# EAGLE library part DRC13-70P-B027 (library con-deutsch)
DRC13-70P-B027 Source: DRC13_70P_B027_051010_Einbau_00.pdf
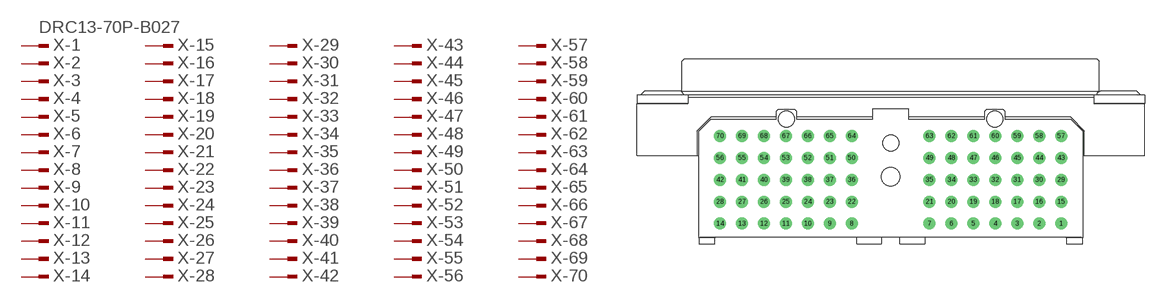
[diagram p23: symbol with the pads of CDG-DRC13-70P-B027; footprint CDG-DRC13-70P-B027]

Designator prefix X; gates -1=PINM_VAL -2=PINM -3=PINM -4=PINM -5=PINM -6=PINM -7=PINM -8=PINM -9=PINM -10=PINM -11=PINM -12=PINM -13=PINM -14=PINM -15=PINM -16=PINM -17=PINM -18=PINM -19=PINM -20=PINM -21=PINM -22=PINM -23=PINM -24=PINM -25=PINM -26=PINM -27=PINM -28=PINM -29=PINM -30=PINM -31=PINM -32=PINM -33=PINM -34=PINM -35=PINM -36=PINM -37=PINM -38=PINM -39=PINM -40=PINM -41=PINM -42=PINM -43=PINM -44=PINM -45=PINM -46=PINM -47=PINM -48=PINM -49=PINM -50=PINM -51=PINM -52=PINM -53=PINM -54=PINM -55=PINM -56=PINM -57=PINM -58=PINM -59=PINM -60=PINM -61=PINM -62=PINM -63=PINM -64=PINM -65=PINM -66=PINM -67=PINM -68=PINM -69=PINM -70=PINM

## DRC13-70P-B027  [CDG-DRC13-70P-B027]
1  -1:1  pas
2  -2:1  pas
3  -3:1  pas
4  -4:1  pas
5  -5:1  pas
6  -6:1  pas
7  -7:1  pas
8  -8:1  pas
9  -9:1  pas
10  -10:1  pas
11  -11:1  pas
12  -12:1  pas
13  -13:1  pas
14  -14:1  pas
15  -15:1  pas
16  -16:1  pas
17  -17:1  pas
18  -18:1  pas
19  -19:1  pas
20  -20:1  pas
21  -21:1  pas
22  -22:1  pas
23  -23:1  pas
24  -24:1  pas
25  -25:1  pas
26  -26:1  pas
27  -27:1  pas
28  -28:1  pas
29  -29:1  pas
30  -30:1  pas
31  -31:1  pas
32  -32:1  pas
33  -33:1  pas
34  -34:1  pas
35  -35:1  pas
36  -36:1  pas
37  -37:1  pas
38  -38:1  pas
39  -39:1  pas
40  -40:1  pas
41  -41:1  pas
42  -42:1  pas
43  -43:1  pas
44  -44:1  pas
45  -45:1  pas
46  -46:1  pas
47  -47:1  pas
48  -48:1  pas
49  -49:1  pas
50  -50:1  pas
51  -51:1  pas
52  -52:1  pas
53  -53:1  pas
54  -54:1  pas
55  -55:1  pas
56  -56:1  pas
57  -57:1  pas
58  -58:1  pas
59  -59:1  pas
60  -60:1  pas
61  -61:1  pas
62  -62:1  pas
63  -63:1  pas
64  -64:1  pas
65  -65:1  pas
66  -66:1  pas
67  -67:1  pas
68  -68:1  pas
69  -69:1  pas
70  -70:1  pas

## Footprint CDG-DRC13-70P-B027 (pad centres in mm)
DRC13-70P-B027 Source: DRC13_70P_B027_051010_Einbau_00.pdf
drill 2 pad 3 round: 1 42.649,-11.747; 2 37.162,-11.747; 3 31.676,-11.747; 4 26.189,-11.747; 5 20.702,-11.747; 6 15.216,-11.747; 7 9.729,-11.747; 8 -9.729,-11.747; 9 -15.216,-11.747; 10 -20.702,-11.747; 11 -26.189,-11.747; 12 -31.676,-11.747; 13 -37.162,-11.747; 14 -42.649,-11.747; 15 42.649,-6.26; 16 37.162,-6.26; 17 31.676,-6.26; 18 26.189,-6.26; 19 20.702,-6.26; 20 15.216,-6.26; 21 9.729,-6.26; 22 -9.729,-6.26; 23 -15.216,-6.26; 24 -20.702,-6.26; 25 -26.189,-6.26; 26 -31.676,-6.26; 27 -37.162,-6.26; 28 -42.649,-6.26; 29 42.649,-0.773; 30 37.162,-0.773; 31 31.676,-0.773; 32 26.189,-0.773; 33 20.702,-0.773; 34 15.216,-0.773; 35 9.729,-0.773; 36 -9.729,-0.773; 37 -15.216,-0.773; 38 -20.702,-0.773; 39 -26.189,-0.773; 40 -31.676,-0.773; 41 -37.162,-0.773; 42 -42.649,-0.773; 43 42.649,4.713; 44 37.162,4.713; 45 31.676,4.713; 46 26.189,4.713; 47 20.702,4.713; 48 15.216,4.713; 49 9.729,4.713; 50 -9.729,4.713; 51 -15.216,4.713; 52 -20.702,4.713; 53 -26.189,4.713; 54 -31.676,4.713; 55 -37.162,4.713; 56 -42.649,4.713; 57 42.649,10.2; 58 37.162,10.2; 59 31.676,10.2; 60 26.189,10.2; 61 20.702,10.2; 62 15.216,10.2; 63 9.729,10.2; 64 -9.729,10.2; 65 -15.216,10.2; 66 -20.702,10.2; 67 -26.189,10.2; 68 -31.676,10.2; 69 -37.162,10.2; 70 -42.649,10.2
hole 4 at 0,8.5
hole 4 at 26.1,14.5
hole 4 at -26.1,14.5
hole 4.6 at 0,0